# Altium schematic symbol library Components - 25.09.24 - 14.38.SchLib: 1 symbol
Pins are listed as number, name and electrical type; pins without a type are passive.

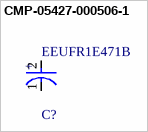
[diagram p0: symbol CMP-05427-000506-1]

## CMP-05427-000506-1
designator C?, comment EEUFR1E471B
Aluminum Electrolytic Capacitors (Radial Lead Type) 470uF ±20% 25V; ESR (Equivalent Series Resistance): 43mR; Ripple Current: 1.29A; Life (Hours): 6000Hour; Lead Diameter: 0.6mm; Polarity: Polar; Min Operating Temperature: -40°C; Tolerance: 20%; Length: 12.5mm; Height - Seated (Max): 0.551inch; Max Operating Temperature: 105°C; Case/Package: Radial; Features: General Purpose; Series: FR; Voltage Rating: 25V; Capacitance: 470uF; Mount: Through Hole; RoHS Compliant: Yes; Packaging: Tape and Reel; Diameter: 10mm; Voltage Rating (DC): 25V; Impedance: 43mR; REACH SVHC: No SVHC; Contact Plating: Tin; Termination: Radial; Radiation Hardening: No; Package Quantity: 500; Lead Pitch: 5mm; Height: 12.5mm
footprint FP-RAD-TH-D_10_0_5-L_12_5-MFG
pins: 1 C, 2 A
text: +